# Altium footprint library LM2576-No G Pad.PcbLib: 1 footprints
Each footprint in its own frame and in the unit in brackets; x right, y up, seen from the top. Pads: shape width x height; smd on the part's side, far side on the other; paste and mask are expansions set on the pad; w line width, h text height; cw(c..) or ccw(c..) is an arc to the next point about the centre after c.
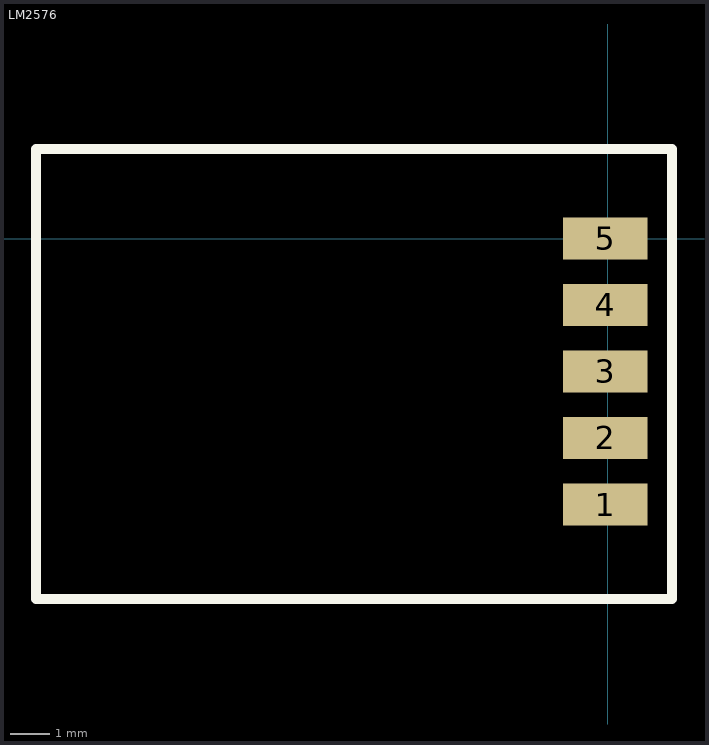
[diagram p0: the footprint, top view; thin cyan lines are the x and y axes]

## LM2576 [mm] "LM2576"
pads (5):
  rect 2.16x1.07 smd: 1(-0.064,-6.794) 2(-0.064,-5.095) 3(-0.064,-3.394) 4(-0.064,-1.695) 5(-0.064,0.005)
Top Overlay:
  lines w0.254: -14.605,-9.207 -14.605,2.286 1.651,2.286 1.651,-9.017 1.651,-9.207 -14.605,-9.207